# EAGLE library part XMOS_AVB_BRD_V4_NC7WZ07P6X_NC7WZ07P6X (library xmos_avb_brd_V4)
UHS Dual Buffer
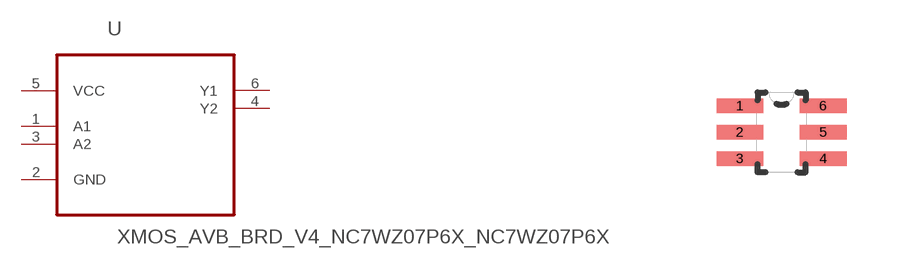
[diagram p8: symbol with the pads of XMOS_AVB_BRD_V4_NC7WZ07P6X_SOT65P210X110-6N; footprint XMOS_AVB_BRD_V4_NC7WZ07P6X_SOT65P210X110-6N]

Designator prefix U

## XMOS_AVB_BRD_V4_NC7WZ07P6X_NC7WZ07P6X (AVAILABILITY: Unavailable; DESCRIPTION: NC7WZ07 Series 5.5 V TinyLogic UHS Dual Buffer _Open Drain Output_ - SC-70-6; MF: ON Semiconductor; MP: NC7WZ07P6X; PACKAGE: SC-70-6 ON Semiconductor; PRICE: None)  [XMOS_AVB_BRD_V4_NC7WZ07P6X_SOT65P210X110-6N]
1  A1  in
2  GND  pas
3  A2  in
4  Y2  out
5  VCC  pwr
6  Y1  out

## Footprint XMOS_AVB_BRD_V4_NC7WZ07P6X_SOT65P210X110-6N (pad centres in mm)
smd 1.168 x 0.356: 1 -1.041,0.66; 2 -1.041,0; 3 -1.041,-0.66; 4 1.041,-0.66; 5 1.041,0; 6 1.041,0.66